# Altium schematic symbol library WE-KI.SchLib: 314 symbols (part 6 of 6)
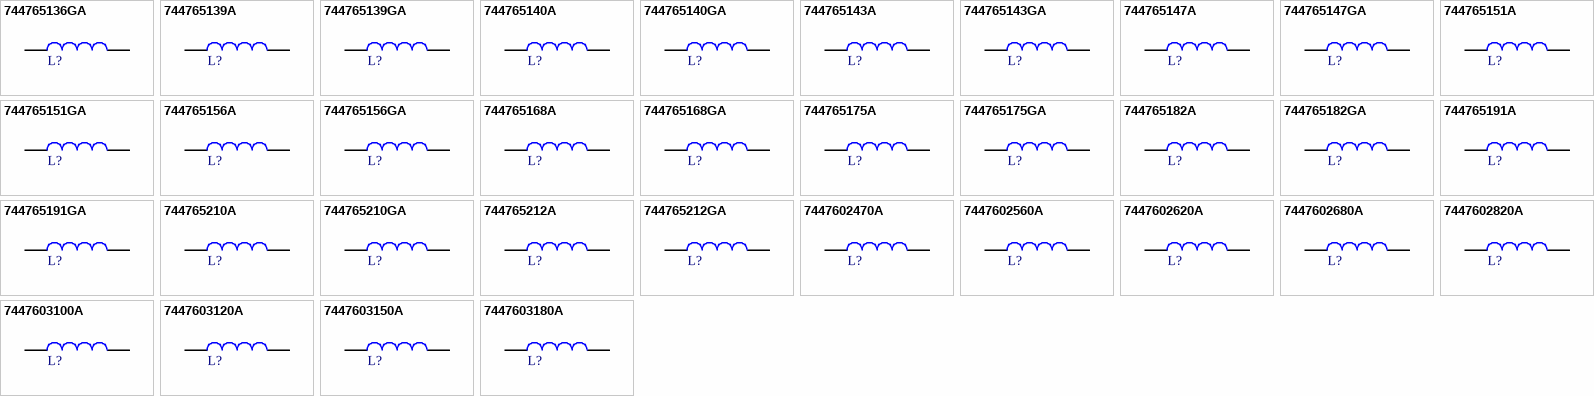
[diagram p12: symbols 744765136GA to 7447603180A]

## 744765139A
designator L?, comment 39nH  (value not drawn)
WE-KI SMT Wire Wound Ceramic Inductor, size 0402, 39nH, 0.32A, 0.55Ω; Manufacturer Part Number: 744765139A; Manufacturer: Wurth Elektronik; Case/Size Code: 0402; Inductance Tolerance: +/-5%; Q Factor: 25; Self Resonant Frequency: 2100MHz; Category: RF Inductors; Match Code: WE-KI; ComponentLink1Description: Website Link; ComponentLink1URL: https://www.we-online.com/redexpert/article/744765139A?ad; ComponentLink2Description: Datasheet Link; ComponentLink2URL: https://www.we-online.com/redexpert/spec/744765139A?ad; Mount: Surface Mount; Operating Temperature Max: 125°C; Operating Temperature Min: -40°C; Packaging: Tape and Reel; Length: 1mm; Width: 0.55mm; Height: 0.5mm; DC Resistance Max: 0.55Ω; Inductance: 39nH; Rated Current: 0.32A
footprint WE-KI_0402
simulation model 0402_744765139A_39n
pins: 1, 2

## 744765139GA
designator L?, comment 39nH  (value not drawn)
WE-KI SMT Wire Wound Ceramic Inductor, size 0402, 39nH, 0.32A, 0.55Ω; Manufacturer Part Number: 744765139GA; Manufacturer: Wurth Elektronik; Case/Size Code: 0402; Inductance Tolerance: +/-2%; Q Factor: 25; Self Resonant Frequency: 2100MHz; Category: RF Inductors; Match Code: WE-KI; ComponentLink1Description: Website Link; ComponentLink1URL: https://www.we-online.com/redexpert/article/744765139GA?ad; ComponentLink2Description: Datasheet Link; ComponentLink2URL: https://www.we-online.com/redexpert/spec/744765139GA?ad; Mount: Surface Mount; Operating Temperature Max: 125°C; Operating Temperature Min: -40°C; Packaging: Tape and Reel; Length: 1mm; Width: 0.55mm; Height: 0.5mm; DC Resistance Max: 0.55Ω; Inductance: 39nH; Rated Current: 0.32A
footprint WE-KI_0402
simulation model 0402_744765139GA_39n
pins: 1, 2

## 744765140A
designator L?, comment 40nH  (value not drawn)
WE-KI SMT Wire Wound Ceramic Inductor, size 0402, 40nH, 0.32A, 0.438Ω; Manufacturer Part Number: 744765140A; Manufacturer: Wurth Elektronik; Case/Size Code: 0402; Inductance Tolerance: +/-5%; Q Factor: 26; Self Resonant Frequency: 2240MHz; Category: RF Inductors; Match Code: WE-KI; ComponentLink1Description: Website Link; ComponentLink1URL: https://www.we-online.com/redexpert/article/744765140A?ad; ComponentLink2Description: Datasheet Link; ComponentLink2URL: https://www.we-online.com/redexpert/spec/744765140A?ad; Mount: Surface Mount; Operating Temperature Max: 125°C; Operating Temperature Min: -40°C; Packaging: Tape and Reel; Length: 1mm; Width: 0.55mm; Height: 0.5mm; DC Resistance Max: 0.438Ω; Inductance: 40nH; Rated Current: 0.32A
footprint WE-KI_0402
simulation model 0402_744765140A_40n
pins: 1, 2

## 744765140GA
designator L?, comment 40nH  (value not drawn)
WE-KI SMT Wire Wound Ceramic Inductor, size 0402, 40nH, 0.32A, 0.438Ω; Manufacturer Part Number: 744765140GA; Manufacturer: Wurth Elektronik; Case/Size Code: 0402; Inductance Tolerance: +/-2%; Q Factor: 26; Self Resonant Frequency: 2240MHz; Category: RF Inductors; Match Code: WE-KI; ComponentLink1Description: Website Link; ComponentLink1URL: https://www.we-online.com/redexpert/article/744765140GA?ad; ComponentLink2Description: Datasheet Link; ComponentLink2URL: https://www.we-online.com/redexpert/spec/744765140GA?ad; Mount: Surface Mount; Operating Temperature Max: 125°C; Operating Temperature Min: -40°C; Packaging: Tape and Reel; Length: 1mm; Width: 0.55mm; Height: 0.5mm; DC Resistance Max: 0.438Ω; Inductance: 40nH; Rated Current: 0.32A
footprint WE-KI_0402
simulation model 0402_744765140GA_40n
pins: 1, 2

## 744765143A
designator L?, comment 43nH  (value not drawn)
WE-KI SMT Wire Wound Ceramic Inductor, size 0402, 43nH, 0.1A, 0.81Ω; Manufacturer Part Number: 744765143A; Manufacturer: Wurth Elektronik; Case/Size Code: 0402; Inductance Tolerance: +/-5%; Q Factor: 25; Self Resonant Frequency: 2030MHz; Category: RF Inductors; Match Code: WE-KI; ComponentLink1Description: Website Link; ComponentLink1URL: https://www.we-online.com/redexpert/article/744765143A?ad; ComponentLink2Description: Datasheet Link; ComponentLink2URL: https://www.we-online.com/redexpert/spec/744765143A?ad; Mount: Surface Mount; Operating Temperature Max: 125°C; Operating Temperature Min: -40°C; Packaging: Tape and Reel; Length: 1mm; Width: 0.55mm; Height: 0.5mm; DC Resistance Max: 0.81Ω; Inductance: 43nH; Rated Current: 0.1A
footprint WE-KI_0402
simulation model 0402_744765143A_43n
pins: 1, 2

## 744765143GA
designator L?, comment 43nH  (value not drawn)
WE-KI SMT Wire Wound Ceramic Inductor, size 0402, 43nH, 0.1A, 0.81Ω; Manufacturer Part Number: 744765143GA; Manufacturer: Wurth Elektronik; Case/Size Code: 0402; Inductance Tolerance: +/-2%; Q Factor: 25; Self Resonant Frequency: 2030MHz; Category: RF Inductors; Match Code: WE-KI; ComponentLink1Description: Website Link; ComponentLink1URL: https://www.we-online.com/redexpert/article/744765143GA?ad; ComponentLink2Description: Datasheet Link; ComponentLink2URL: https://www.we-online.com/redexpert/spec/744765143GA?ad; Mount: Surface Mount; Operating Temperature Max: 125°C; Operating Temperature Min: -40°C; Packaging: Tape and Reel; Length: 1mm; Width: 0.55mm; Height: 0.5mm; DC Resistance Max: 0.81Ω; Inductance: 43nH; Rated Current: 0.1A
footprint WE-KI_0402
simulation model 0402_744765143GA_43n
pins: 1, 2

## 744765147A
designator L?, comment 47nH  (value not drawn)
WE-KI SMT Wire Wound Ceramic Inductor, size 0402, 47nH, 0.1A, 0.83Ω; Manufacturer Part Number: 744765147A; Manufacturer: Wurth Elektronik; Case/Size Code: 0402; Inductance Tolerance: +/-5%; Q Factor: 26; Self Resonant Frequency: 2100MHz; Category: RF Inductors; Match Code: WE-KI; ComponentLink1Description: Website Link; ComponentLink1URL: https://www.we-online.com/redexpert/article/744765147A?ad; ComponentLink2Description: Datasheet Link; ComponentLink2URL: https://www.we-online.com/redexpert/spec/744765147A?ad; Mount: Surface Mount; Operating Temperature Max: 125°C; Operating Temperature Min: -40°C; Packaging: Tape and Reel; Length: 1mm; Width: 0.55mm; Height: 0.5mm; DC Resistance Max: 0.83Ω; Inductance: 47nH; Rated Current: 0.1A
footprint WE-KI_0402
simulation model 0402_744765147A_47n
pins: 1, 2

## 744765147GA
designator L?, comment 47nH  (value not drawn)
WE-KI SMT Wire Wound Ceramic Inductor, size 0402, 47nH, 0.1A, 0.83Ω; Manufacturer Part Number: 744765147GA; Manufacturer: Wurth Elektronik; Case/Size Code: 0402; Inductance Tolerance: +/-2%; Q Factor: 26; Self Resonant Frequency: 2100MHz; Category: RF Inductors; Match Code: WE-KI; ComponentLink1Description: Website Link; ComponentLink1URL: https://www.we-online.com/redexpert/article/744765147GA?ad; ComponentLink2Description: Datasheet Link; ComponentLink2URL: https://www.we-online.com/redexpert/spec/744765147GA?ad; Mount: Surface Mount; Operating Temperature Max: 125°C; Operating Temperature Min: -40°C; Packaging: Tape and Reel; Length: 1mm; Width: 0.55mm; Height: 0.5mm; DC Resistance Max: 0.83Ω; Inductance: 47nH; Rated Current: 0.1A
footprint WE-KI_0402
simulation model 0402_744765147GA_47n
pins: 1, 2

## 744765151A
designator L?, comment 51nH  (value not drawn)
WE-KI SMT Wire Wound Ceramic Inductor, size 0402, 51nH, 0.1A, 0.82Ω; Manufacturer Part Number: 744765151A; Manufacturer: Wurth Elektronik; Case/Size Code: 0402; Inductance Tolerance: +/-5%; Q Factor: 25; Self Resonant Frequency: 1750MHz; Category: RF Inductors; Match Code: WE-KI; ComponentLink1Description: Website Link; ComponentLink1URL: https://www.we-online.com/redexpert/article/744765151A?ad; ComponentLink2Description: Datasheet Link; ComponentLink2URL: https://www.we-online.com/redexpert/spec/744765151A?ad; Mount: Surface Mount; Operating Temperature Max: 125°C; Operating Temperature Min: -40°C; Packaging: Tape and Reel; Length: 1mm; Width: 0.55mm; Height: 0.5mm; DC Resistance Max: 0.82Ω; Inductance: 51nH; Rated Current: 0.1A
footprint WE-KI_0402
simulation model 0402_744765151A_51n
pins: 1, 2

## 744765151GA
designator L?, comment 51nH  (value not drawn)
WE-KI SMT Wire Wound Ceramic Inductor, size 0402, 51nH, 0.1A, 0.82Ω; Manufacturer Part Number: 744765151GA; Manufacturer: Wurth Elektronik; Case/Size Code: 0402; Inductance Tolerance: +/-2%; Q Factor: 25; Self Resonant Frequency: 1750MHz; Category: RF Inductors; Match Code: WE-KI; ComponentLink1Description: Website Link; ComponentLink1URL: https://www.we-online.com/redexpert/article/744765151GA?ad; ComponentLink2Description: Datasheet Link; ComponentLink2URL: https://www.we-online.com/redexpert/spec/744765151GA?ad; Mount: Surface Mount; Operating Temperature Max: 125°C; Operating Temperature Min: -40°C; Packaging: Tape and Reel; Length: 1mm; Width: 0.55mm; Height: 0.5mm; DC Resistance Max: 0.82Ω; Inductance: 51nH; Rated Current: 0.1A
footprint WE-KI_0402
simulation model 0402_744765151GA_51n
pins: 1, 2

## 744765156A
designator L?, comment 56nH  (value not drawn)
WE-KI SMT Wire Wound Ceramic Inductor, size 0402, 56nH, 0.1A, 0.97Ω; Manufacturer Part Number: 744765156A; Manufacturer: Wurth Elektronik; Case/Size Code: 0402; Inductance Tolerance: +/-5%; Q Factor: 22; Self Resonant Frequency: 1760MHz; Category: RF Inductors; Match Code: WE-KI; ComponentLink1Description: Website Link; ComponentLink1URL: https://www.we-online.com/redexpert/article/744765156A?ad; ComponentLink2Description: Datasheet Link; ComponentLink2URL: https://www.we-online.com/redexpert/spec/744765156A?ad; Mount: Surface Mount; Operating Temperature Max: 125°C; Operating Temperature Min: -40°C; Packaging: Tape and Reel; Length: 1mm; Width: 0.55mm; Height: 0.5mm; DC Resistance Max: 0.97Ω; Inductance: 56nH; Rated Current: 0.1A
footprint WE-KI_0402
simulation model 0402_744765156A_56n
pins: 1, 2

## 744765156GA
designator L?, comment 56nH  (value not drawn)
WE-KI SMT Wire Wound Ceramic Inductor, size 0402, 56nH, 0.1A, 0.97Ω; Manufacturer Part Number: 744765156GA; Manufacturer: Wurth Elektronik; Case/Size Code: 0402; Inductance Tolerance: +/-2%; Q Factor: 22; Self Resonant Frequency: 1760MHz; Category: RF Inductors; Match Code: WE-KI; ComponentLink1Description: Website Link; ComponentLink1URL: https://www.we-online.com/redexpert/article/744765156GA?ad; ComponentLink2Description: Datasheet Link; ComponentLink2URL: https://www.we-online.com/redexpert/spec/744765156GA?ad; Mount: Surface Mount; Operating Temperature Max: 125°C; Operating Temperature Min: -40°C; Packaging: Tape and Reel; Length: 1mm; Width: 0.55mm; Height: 0.5mm; DC Resistance Max: 0.97Ω; Inductance: 56nH; Rated Current: 0.1A
footprint WE-KI_0402
simulation model 0402_744765156GA_56n
pins: 1, 2

## 744765168A
designator L?, comment 68nH  (value not drawn)
WE-KI SMT Wire Wound Ceramic Inductor, size 0402, 68nH, 0.1A, 1.12Ω; Manufacturer Part Number: 744765168A; Manufacturer: Wurth Elektronik; Case/Size Code: 0402; Inductance Tolerance: +/-5%; Q Factor: 22; Self Resonant Frequency: 1620MHz; Category: RF Inductors; Match Code: WE-KI; ComponentLink1Description: Website Link; ComponentLink1URL: https://www.we-online.com/redexpert/article/744765168A?ad; ComponentLink2Description: Datasheet Link; ComponentLink2URL: https://www.we-online.com/redexpert/spec/744765168A?ad; Mount: Surface Mount; Operating Temperature Max: 125°C; Operating Temperature Min: -40°C; Packaging: Tape and Reel; Length: 1mm; Width: 0.55mm; Height: 0.5mm; DC Resistance Max: 1.12Ω; Inductance: 68nH; Rated Current: 0.1A
footprint WE-KI_0402
simulation model 0402_744765168A_68n
pins: 1, 2

## 744765168GA
designator L?, comment 68nH  (value not drawn)
WE-KI SMT Wire Wound Ceramic Inductor, size 0402, 68nH, 0.1A, 1.12Ω; Manufacturer Part Number: 744765168GA; Manufacturer: Wurth Elektronik; Case/Size Code: 0402; Inductance Tolerance: +/-2%; Q Factor: 22; Self Resonant Frequency: 1620MHz; Category: RF Inductors; Match Code: WE-KI; ComponentLink1Description: Website Link; ComponentLink1URL: https://www.we-online.com/redexpert/article/744765168GA?ad; ComponentLink2Description: Datasheet Link; ComponentLink2URL: https://www.we-online.com/redexpert/spec/744765168GA?ad; Mount: Surface Mount; Operating Temperature Max: 125°C; Operating Temperature Min: -40°C; Packaging: Tape and Reel; Length: 1mm; Width: 0.55mm; Height: 0.5mm; DC Resistance Max: 1.12Ω; Inductance: 68nH; Rated Current: 0.1A
footprint WE-KI_0402
simulation model 0402_744765168GA_68n
pins: 1, 2

## 744765175A
designator L?, comment 75nH  (value not drawn)
WE-KI SMT Wire Wound Ceramic Inductor, size 0402, 75nH, 0.16A, 1.2Ω; Manufacturer Part Number: 744765175A; Manufacturer: Wurth Elektronik; Case/Size Code: 0402; Inductance Tolerance: +/-5%; Q Factor: 20; Self Resonant Frequency: 1550MHz; Category: RF Inductors; Match Code: WE-KI; ComponentLink1Description: Website Link; ComponentLink1URL: https://www.we-online.com/redexpert/article/744765175A?ad; ComponentLink2Description: Datasheet Link; ComponentLink2URL: https://www.we-online.com/redexpert/spec/744765175A?ad; Mount: Surface Mount; Operating Temperature Max: 125°C; Operating Temperature Min: -40°C; Packaging: Tape and Reel; Length: 1mm; Width: 0.55mm; Height: 0.5mm; DC Resistance Max: 1.2Ω; Inductance: 75nH; Rated Current: 0.16A
footprint WE-KI_0402
simulation model 0402_744765175A_75n
pins: 1, 2

## 744765175GA
designator L?, comment 75nH  (value not drawn)
WE-KI SMT Wire Wound Ceramic Inductor, size 0402, 75nH, 0.16A, 1.2Ω; Manufacturer Part Number: 744765175GA; Manufacturer: Wurth Elektronik; Case/Size Code: 0402; Inductance Tolerance: +/-2%; Q Factor: 20; Self Resonant Frequency: 1550MHz; Category: RF Inductors; Match Code: WE-KI; ComponentLink1Description: Website Link; ComponentLink1URL: https://www.we-online.com/redexpert/article/744765175GA?ad; ComponentLink2Description: Datasheet Link; ComponentLink2URL: https://www.we-online.com/redexpert/spec/744765175GA?ad; Mount: Surface Mount; Operating Temperature Max: 125°C; Operating Temperature Min: -40°C; Packaging: Tape and Reel; Length: 1mm; Width: 0.55mm; Height: 0.5mm; DC Resistance Max: 1.2Ω; Inductance: 75nH; Rated Current: 0.16A
footprint WE-KI_0402
simulation model 0402_744765175GA_75n
pins: 1, 2

## 744765182A
designator L?, comment 82nH  (value not drawn)
WE-KI SMT Wire Wound Ceramic Inductor, size 0402, 82nH, 0.1A, 1.25Ω; Manufacturer Part Number: 744765182A; Manufacturer: Wurth Elektronik; Case/Size Code: 0402; Inductance Tolerance: +/-5%; Q Factor: 20; Self Resonant Frequency: 1500MHz; Category: RF Inductors; Match Code: WE-KI; ComponentLink1Description: Website Link; ComponentLink1URL: https://www.we-online.com/redexpert/article/744765182A?ad; ComponentLink2Description: Datasheet Link; ComponentLink2URL: https://www.we-online.com/redexpert/spec/744765182A?ad; Mount: Surface Mount; Operating Temperature Max: 125°C; Operating Temperature Min: -40°C; Packaging: Tape and Reel; Length: 1mm; Width: 0.55mm; Height: 0.5mm; DC Resistance Max: 1.25Ω; Inductance: 82nH; Rated Current: 0.1A
footprint WE-KI_0402
simulation model 0402_744765182A_82n
pins: 1, 2

## 744765182GA
designator L?, comment 82nH  (value not drawn)
WE-KI SMT Wire Wound Ceramic Inductor, size 0402, 82nH, 0.1A, 1.25Ω; Manufacturer Part Number: 744765182GA; Manufacturer: Wurth Elektronik; Case/Size Code: 0402; Inductance Tolerance: +/-2%; Q Factor: 20; Self Resonant Frequency: 1500MHz; Category: RF Inductors; Match Code: WE-KI; ComponentLink1Description: Website Link; ComponentLink1URL: https://www.we-online.com/redexpert/article/744765182GA?ad; ComponentLink2Description: Datasheet Link; ComponentLink2URL: https://www.we-online.com/redexpert/spec/744765182GA?ad; Mount: Surface Mount; Operating Temperature Max: 125°C; Operating Temperature Min: -40°C; Packaging: Tape and Reel; Length: 1mm; Width: 0.55mm; Height: 0.5mm; DC Resistance Max: 1.25Ω; Inductance: 82nH; Rated Current: 0.1A
footprint WE-KI_0402
simulation model 0402_744765182GA_82n
pins: 1, 2

## 744765191A
designator L?, comment 91nH  (value not drawn)
WE-KI SMT Wire Wound Ceramic Inductor, size 0402, 91nH, 0.12A, 2.3Ω; Manufacturer Part Number: 744765191A; Manufacturer: Wurth Elektronik; Case/Size Code: 0402; Inductance Tolerance: +/-5%; Q Factor: 20; Self Resonant Frequency: 1350MHz; Category: RF Inductors; Match Code: WE-KI; ComponentLink1Description: Website Link; ComponentLink1URL: https://www.we-online.com/redexpert/article/744765191A?ad; ComponentLink2Description: Datasheet Link; ComponentLink2URL: https://www.we-online.com/redexpert/spec/744765191A?ad; Mount: Surface Mount; Operating Temperature Max: 125°C; Operating Temperature Min: -40°C; Packaging: Tape and Reel; Length: 1mm; Width: 0.55mm; Height: 0.5mm; DC Resistance Max: 2.3Ω; Inductance: 91nH; Rated Current: 0.12A
footprint WE-KI_0402
simulation model 0402_744765191A_91n
pins: 1, 2

## 744765191GA
designator L?, comment 91nH  (value not drawn)
WE-KI SMT Wire Wound Ceramic Inductor, size 0402, 91nH, 0.12A, 2.3Ω; Manufacturer Part Number: 744765191GA; Manufacturer: Wurth Elektronik; Case/Size Code: 0402; Inductance Tolerance: +/-2%; Q Factor: 20; Self Resonant Frequency: 1350MHz; Category: RF Inductors; Match Code: WE-KI; ComponentLink1Description: Website Link; ComponentLink1URL: https://www.we-online.com/redexpert/article/744765191GA?ad; ComponentLink2Description: Datasheet Link; ComponentLink2URL: https://www.we-online.com/redexpert/spec/744765191GA?ad; Mount: Surface Mount; Operating Temperature Max: 125°C; Operating Temperature Min: -40°C; Packaging: Tape and Reel; Length: 1mm; Width: 0.55mm; Height: 0.5mm; DC Resistance Max: 2.3Ω; Inductance: 91nH; Rated Current: 0.12A
footprint WE-KI_0402
simulation model 0402_744765191GA_91n
pins: 1, 2

## 744765210A
designator L?, comment 100nH  (value not drawn)
WE-KI SMT Wire Wound Ceramic Inductor, size 0402, 100nH, 0.1A, 2.52Ω; Manufacturer Part Number: 744765210A; Manufacturer: Wurth Elektronik; Case/Size Code: 0402; Inductance Tolerance: +/-5%; Q Factor: 20; Self Resonant Frequency: 1300MHz; Category: RF Inductors; Match Code: WE-KI; ComponentLink1Description: Website Link; ComponentLink1URL: https://www.we-online.com/redexpert/article/744765210A?ad; ComponentLink2Description: Datasheet Link; ComponentLink2URL: https://www.we-online.com/redexpert/spec/744765210A?ad; Mount: Surface Mount; Operating Temperature Max: 125°C; Operating Temperature Min: -40°C; Packaging: Tape and Reel; Length: 1mm; Width: 0.55mm; Height: 0.5mm; DC Resistance Max: 2.52Ω; Inductance: 100nH; Rated Current: 0.1A
footprint WE-KI_0402
simulation model 0402_744765210A_100n
pins: 1, 2

## 744765210GA
designator L?, comment 100nH  (value not drawn)
WE-KI SMT Wire Wound Ceramic Inductor, size 0402, 100nH, 0.1A, 2.52Ω; Manufacturer Part Number: 744765210GA; Manufacturer: Wurth Elektronik; Case/Size Code: 0402; Inductance Tolerance: +/-2%; Q Factor: 20; Self Resonant Frequency: 1300MHz; Category: RF Inductors; Match Code: WE-KI; ComponentLink1Description: Website Link; ComponentLink1URL: https://www.we-online.com/redexpert/article/744765210GA?ad; ComponentLink2Description: Datasheet Link; ComponentLink2URL: https://www.we-online.com/redexpert/spec/744765210GA?ad; Mount: Surface Mount; Operating Temperature Max: 125°C; Operating Temperature Min: -40°C; Packaging: Tape and Reel; Length: 1mm; Width: 0.55mm; Height: 0.5mm; DC Resistance Max: 2.52Ω; Inductance: 100nH; Rated Current: 0.1A
footprint WE-KI_0402
simulation model 0402_744765210GA_100n
pins: 1, 2

## 744765212A
designator L?, comment 120nH  (value not drawn)
WE-KI SMT Wire Wound Ceramic Inductor, size 0402, 120nH, 0.1A, 2.66Ω; Manufacturer Part Number: 744765212A; Manufacturer: Wurth Elektronik; Case/Size Code: 0402; Inductance Tolerance: +/-5%; Q Factor: 20; Self Resonant Frequency: 1100MHz; Category: RF Inductors; Match Code: WE-KI; ComponentLink1Description: Website Link; ComponentLink1URL: https://www.we-online.com/redexpert/article/744765212A?ad; ComponentLink2Description: Datasheet Link; ComponentLink2URL: https://www.we-online.com/redexpert/spec/744765212A?ad; Mount: Surface Mount; Operating Temperature Max: 125°C; Operating Temperature Min: -40°C; Packaging: Tape and Reel; Length: 1mm; Width: 0.55mm; Height: 0.5mm; DC Resistance Max: 2.66Ω; Inductance: 120nH; Rated Current: 0.1A
footprint WE-KI_0402
simulation model 0402_744765212A_120n
pins: 1, 2

## 744765212GA
designator L?, comment 120nH  (value not drawn)
WE-KI SMT Wire Wound Ceramic Inductor, size 0402, 120nH, 0.1A, 2.66Ω; Manufacturer Part Number: 744765212GA; Manufacturer: Wurth Elektronik; Case/Size Code: 0402; Inductance Tolerance: +/-2%; Q Factor: 20; Self Resonant Frequency: 1100MHz; Category: RF Inductors; Match Code: WE-KI; ComponentLink1Description: Website Link; ComponentLink1URL: https://www.we-online.com/redexpert/article/744765212GA?ad; ComponentLink2Description: Datasheet Link; ComponentLink2URL: https://www.we-online.com/redexpert/spec/744765212GA?ad; Mount: Surface Mount; Operating Temperature Max: 125°C; Operating Temperature Min: -40°C; Packaging: Tape and Reel; Length: 1mm; Width: 0.55mm; Height: 0.5mm; DC Resistance Max: 2.66Ω; Inductance: 120nH; Rated Current: 0.1A
footprint WE-KI_0402
simulation model 0402_744765212GA_120n
pins: 1, 2

## 7447602470A
designator L?, comment 470nH  (value not drawn)
WE-KI SMT Wire Wound Ceramic Inductor, size 0805, 470nH, 0.21A, 1.05Ω; Manufacturer Part Number: 7447602470A; Manufacturer: Wurth Elektronik; Case/Size Code: 0805; Inductance Tolerance: +/-5%; Q Factor: 25; Self Resonant Frequency: 350MHz; Category: RF Inductors; Match Code: WE-KI; ComponentLink1Description: Website Link; ComponentLink1URL: https://www.we-online.com/redexpert/article/7447602470A?ad; ComponentLink2Description: Datasheet Link; ComponentLink2URL: https://www.we-online.com/redexpert/spec/7447602470A?ad; Mount: Surface Mount; Operating Temperature Max: 125°C; Operating Temperature Min: -40°C; Packaging: Tape and Reel; Length: 2mm; Width: 1.25mm; Height: 1.2mm; DC Resistance Max: 1.05Ω; Inductance: 470nH; Rated Current: 0.21A
footprint WE-KI_0805
simulation model 0805_7447602470A_470n
pins: 1, 2

## 7447602560A
designator L?, comment 560nH  (value not drawn)
WE-KI SMT Wire Wound Ceramic Inductor, size 0805, 560nH, 0.23A, 1.1Ω; Manufacturer Part Number: 7447602560A; Manufacturer: Wurth Elektronik; Case/Size Code: 0805; Inductance Tolerance: +/-5%; Q Factor: 18; Self Resonant Frequency: 250MHz; Category: RF Inductors; Match Code: WE-KI; ComponentLink1Description: Website Link; ComponentLink1URL: https://www.we-online.com/redexpert/article/7447602560A?ad; ComponentLink2Description: Datasheet Link; ComponentLink2URL: https://www.we-online.com/redexpert/spec/7447602560A?ad; Mount: Surface Mount; Operating Temperature Max: 125°C; Operating Temperature Min: -40°C; Packaging: Tape and Reel; Length: 2mm; Width: 1.25mm; Height: 1.2mm; DC Resistance Max: 1.1Ω; Inductance: 560nH; Rated Current: 0.23A
footprint WE-KI_0805
simulation model 0805_7447602560A_560n
pins: 1, 2

## 7447602620A
designator L?, comment 620nH  (value not drawn)
WE-KI SMT Wire Wound Ceramic Inductor, size 0805, 620nH, 0.23A, 1.2Ω; Manufacturer Part Number: 7447602620A; Manufacturer: Wurth Elektronik; Case/Size Code: 0805; Inductance Tolerance: +/-5%; Q Factor: 18; Self Resonant Frequency: 250MHz; Category: RF Inductors; Match Code: WE-KI; ComponentLink1Description: Website Link; ComponentLink1URL: https://www.we-online.com/redexpert/article/7447602620A?ad; ComponentLink2Description: Datasheet Link; ComponentLink2URL: https://www.we-online.com/redexpert/spec/7447602620A?ad; Mount: Surface Mount; Operating Temperature Max: 125°C; Operating Temperature Min: -40°C; Packaging: Tape and Reel; Length: 2mm; Width: 1.25mm; Height: 1.2mm; DC Resistance Max: 1.2Ω; Inductance: 620nH; Rated Current: 0.23A
footprint WE-KI_0805
simulation model 0805_7447602620A_620n
pins: 1, 2

## 7447602680A
designator L?, comment 680nH  (value not drawn)
WE-KI SMT Wire Wound Ceramic Inductor, size 0805, 680nH, 0.4A, 1.2Ω; Manufacturer Part Number: 7447602680A; Manufacturer: Wurth Elektronik; Case/Size Code: 0805; Inductance Tolerance: +/-5%; Q Factor: 15; Self Resonant Frequency: 188MHz; Category: RF Inductors; Match Code: WE-KI; ComponentLink1Description: Website Link; ComponentLink1URL: https://www.we-online.com/redexpert/article/7447602680A?ad; ComponentLink2Description: Datasheet Link; ComponentLink2URL: https://www.we-online.com/redexpert/spec/7447602680A?ad; Mount: Surface Mount; Operating Temperature Max: 125°C; Operating Temperature Min: -40°C; Packaging: Tape and Reel; Length: 2mm; Width: 1.25mm; Height: 1.2mm; DC Resistance Max: 1.2Ω; Inductance: 680nH; Rated Current: 0.4A
footprint WE-KI_0805
simulation model 0805_7447602680A_680n
pins: 1, 2

## 7447602820A
designator L?, comment 820nH  (value not drawn)
WE-KI SMT Wire Wound Ceramic Inductor, size 0805, 820nH, 0.3A, 1.5Ω; Manufacturer Part Number: 7447602820A; Manufacturer: Wurth Elektronik; Case/Size Code: 0805; Inductance Tolerance: +/-5%; Q Factor: 15; Self Resonant Frequency: 215MHz; Category: RF Inductors; Match Code: WE-KI; ComponentLink1Description: Website Link; ComponentLink1URL: https://www.we-online.com/redexpert/article/7447602820A?ad; ComponentLink2Description: Datasheet Link; ComponentLink2URL: https://www.we-online.com/redexpert/spec/7447602820A?ad; Mount: Surface Mount; Operating Temperature Max: 125°C; Operating Temperature Min: -40°C; Packaging: Tape and Reel; Length: 2mm; Width: 1.25mm; Height: 1.2mm; DC Resistance Max: 1.5Ω; Inductance: 820nH; Rated Current: 0.3A
footprint WE-KI_0805
simulation model 0805_7447602820A_820n
pins: 1, 2

## 7447603100A
designator L?, comment 1000nH  (value not drawn)
WE-KI SMT Wire Wound Ceramic Inductor, size 0805, 1000nH, 0.18A, 2.8Ω; Manufacturer Part Number: 7447603100A; Manufacturer: Wurth Elektronik; Case/Size Code: 0805; Inductance Tolerance: +/-5%; Q Factor: 20; Self Resonant Frequency: 250MHz; Category: RF Inductors; Match Code: WE-KI; ComponentLink1Description: Website Link; ComponentLink1URL: https://www.we-online.com/redexpert/article/7447603100A?ad; ComponentLink2Description: Datasheet Link; ComponentLink2URL: https://www.we-online.com/redexpert/spec/7447603100A?ad; Mount: Surface Mount; Operating Temperature Max: 125°C; Operating Temperature Min: -40°C; Packaging: Tape and Reel; Length: 2mm; Width: 1.25mm; Height: 1.2mm; DC Resistance Max: 2.8Ω; Inductance: 1000nH; Rated Current: 0.18A
footprint WE-KI_0805
simulation model 0805_7447603100A_1000n
pins: 1, 2

## 7447603120A
designator L?, comment 1200nH  (value not drawn)
WE-KI SMT Wire Wound Ceramic Inductor, size 0805, 1200nH, 0.2A, 3.2Ω; Manufacturer Part Number: 7447603120A; Manufacturer: Wurth Elektronik; Case/Size Code: 0805; Inductance Tolerance: +/-5%; Q Factor: 18; Self Resonant Frequency: 190MHz; Category: RF Inductors; Match Code: WE-KI; ComponentLink1Description: Website Link; ComponentLink1URL: https://www.we-online.com/redexpert/article/7447603120A?ad; ComponentLink2Description: Datasheet Link; ComponentLink2URL: https://www.we-online.com/redexpert/spec/7447603120A?ad; Mount: Surface Mount; Operating Temperature Max: 125°C; Operating Temperature Min: -40°C; Packaging: Tape and Reel; Length: 2mm; Width: 1.25mm; Height: 1.2mm; DC Resistance Max: 3.2Ω; Inductance: 1200nH; Rated Current: 0.2A
footprint WE-KI_0805
simulation model 0805_7447603120A_1200n
pins: 1, 2

## 7447603150A
designator L?, comment 1500nH  (value not drawn)
WE-KI SMT Wire Wound Ceramic Inductor, size 0805, 1500nH, 0.16A, 5.88Ω; Manufacturer Part Number: 7447603150A; Manufacturer: Wurth Elektronik; Case/Size Code: 0805; Inductance Tolerance: +/-5%; Q Factor: 18; Self Resonant Frequency: 210MHz; Category: RF Inductors; Match Code: WE-KI; ComponentLink1Description: Website Link; ComponentLink1URL: https://www.we-online.com/redexpert/article/7447603150A?ad; ComponentLink2Description: Datasheet Link; ComponentLink2URL: https://www.we-online.com/redexpert/spec/7447603150A?ad; Mount: Surface Mount; Operating Temperature Max: 125°C; Operating Temperature Min: -40°C; Packaging: Tape and Reel; Length: 2mm; Width: 1.25mm; Height: 1.2mm; DC Resistance Max: 5.88Ω; Inductance: 1500nH; Rated Current: 0.16A
footprint WE-KI_0805
simulation model 0805_7447603150A_1500n
pins: 1, 2

## 7447603180A
designator L?, comment 1800nH  (value not drawn)
WE-KI SMT Wire Wound Ceramic Inductor, size 0805, 1800nH, 0.14A, 6.26Ω; Manufacturer Part Number: 7447603180A; Manufacturer: Wurth Elektronik; Case/Size Code: 0805; Inductance Tolerance: +/-5%; Q Factor: 18; Self Resonant Frequency: 210MHz; Category: RF Inductors; Match Code: WE-KI; ComponentLink1Description: Website Link; ComponentLink1URL: https://www.we-online.com/redexpert/article/7447603180A?ad; ComponentLink2Description: Datasheet Link; ComponentLink2URL: https://www.we-online.com/redexpert/spec/7447603180A?ad; Mount: Surface Mount; Operating Temperature Max: 125°C; Operating Temperature Min: -40°C; Packaging: Tape and Reel; Length: 2mm; Width: 1.25mm; Height: 1.2mm; DC Resistance Max: 6.26Ω; Inductance: 1800nH; Rated Current: 0.14A
footprint WE-KI_0805
simulation model 0805_7447603180A_1800n
pins: 1, 2